# Altium schematic symbol library Schlib2.SchLib: 2 symbols
Pins are listed as number, name and electrical type; pins without a type are passive.

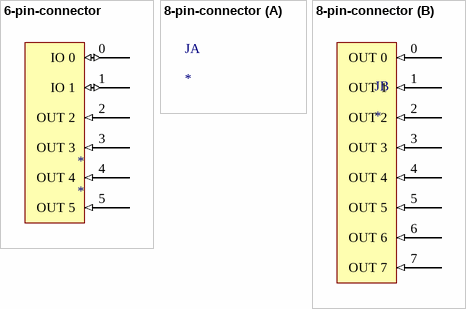
[diagram p0: symbols 6-pin-connector to 8-pin-connector]

## 6-pin-connector
designator *
footprint 6-PIN-CONNECTOR (J)
pins: 0 IO 0 (io), 1 IO 1 (io), 2 OUT 2 (in), 3 OUT 3 (in), 4 OUT 4 (in), 5 OUT 5 (in)

## 8-pin-connector
designator J
footprint 8-pin-connector
part B pins: 0 OUT 0 (in), 1 OUT 1 (in), 2 OUT 2 (in), 3 OUT 3 (in), 4 OUT 4 (in), 5 OUT 5 (in), 6 OUT 6 (in), 7 OUT 7 (in)